# EAGLE library part CON_HOLE_8POS (library iBionics)
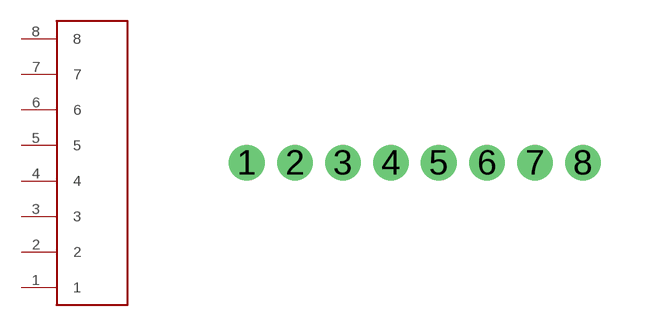
[diagram p8: symbol with the pads of CON_HOLE_POS8; footprint CON_HOLE_POS8]

Designator prefix -

## CON_HOLE_8POS  [CON_HOLE_POS8]
1  1
2  2
3  3
4  4
5  5
6  6
7  7
8  8

## Footprint CON_HOLE_POS8 (pad centres in mm)
drill 0.381 pad 0.737: 1 -4.2,0; 2 -3,0; 3 -1.8,0; 4 -0.6,0; 5 0.6,0; 6 1.8,0; 7 3,0; 8 4.2,0